# EAGLE library part ESP-WROOM-02 (library Modules)
ESP8266EX搭載Wi-Fiモジュール ・電源電圧：３．０～３．６Ｖ ・消費電流：平均８０ｍＡ ・対応ＷｉＦｉプロトコル：802.11b/g/n（2.4GHz） ・サイズ：１８ｍｍ×２０ｍｍ×３ｍｍ ・Ｗｉ－Ｆｉモード：station／SoftAP／SoftAP＋station ・セキュリティ：ＷＰＡ／ＷＰＡ２ ・暗号化：ＷＥＰ／ＴＫＩＰ／ＡＥＳ ・内蔵フラッシュ：４MBytes ・工事設計認証（技適）番号：２０６－０００５１９
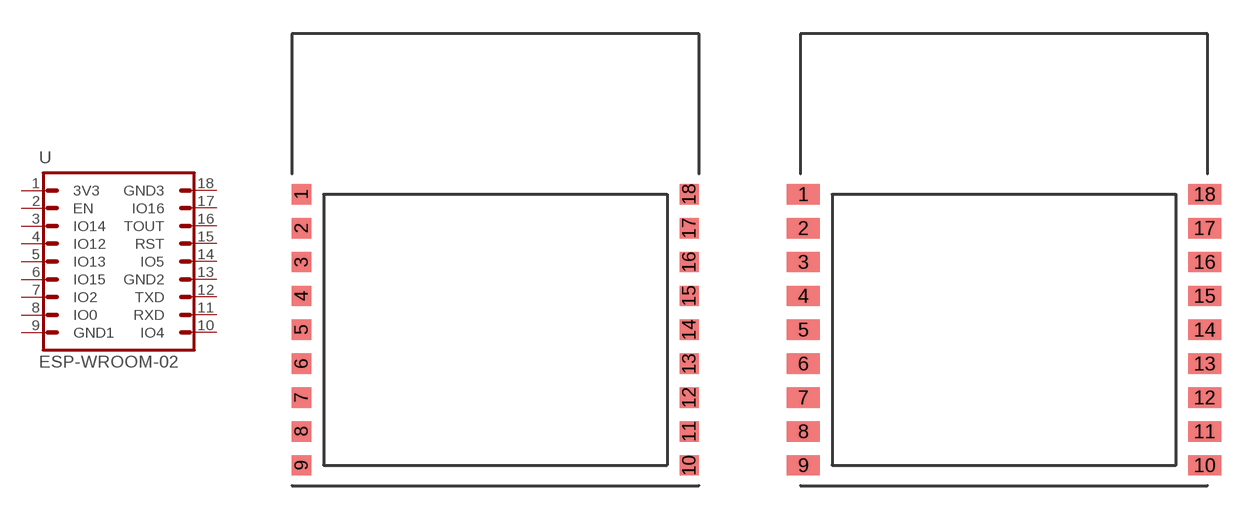
[diagram p3: symbol with the pads of ESP-WROOM-02; footprints ESP-WROOM-02, ESP-WROOM-02_]

Designator prefix U

## ESP-WROOM-02  [ESP-WROOM-02]
1  3V3  pas
2  EN
3  IO14
4  IO12
5  IO13
6  IO15
7  IO2
8  IO0
9  GND1  pas
10  IO4
11  RXD
12  TXD
13  GND2  pas
14  IO5
15  RST
16  TOUT
17  IO16
18  GND3  pas

## ESP-WROOM-02_  [ESP-WROOM-02_]
Pads as for ESP-WROOM-02

## Footprint ESP-WROOM-02 (pad centres in mm)
Dimensions of ESP-WROOM-02
smd 0.85 x 0.9: 1 0.425,12.9; 2 0.425,11.4; 3 0.425,9.9; 4 0.425,8.4; 5 0.425,6.9; 6 0.425,5.4; 7 0.425,3.9; 8 0.425,2.4; 9 0.425,0.9; 10 17.575,0.9; 11 17.575,2.4; 12 17.575,3.9; 13 17.575,5.4; 14 17.575,6.9; 15 17.575,8.4; 16 17.575,9.9; 17 17.575,11.4; 18 17.575,12.9

## Footprint ESP-WROOM-02_ (pad centres in mm)
Dimensions of ESP-WROOM-02 手はんだ用パターン
smd 1.45 x 0.9: 1 0.125,12.9; 2 0.125,11.4; 3 0.125,9.9; 4 0.125,8.4; 5 0.125,6.9; 6 0.125,5.4; 7 0.125,3.9; 8 0.125,2.4; 9 0.125,0.9; 10 17.875,0.9; 11 17.875,2.4; 12 17.875,3.9; 13 17.875,5.4; 14 17.875,6.9; 15 17.875,8.4; 16 17.875,9.9; 17 17.875,11.4; 18 17.875,12.9